# Altium footprint library 53261-0871.PcbLib: 1 footprints
Each footprint in its own frame and in the unit in brackets; x right, y up, seen from the top. Pads: shape width x height; smd on the part's side, far side on the other; paste and mask are expansions set on the pad; w line width, h text height; cw(c..) or ccw(c..) is an arc to the next point about the centre after c.
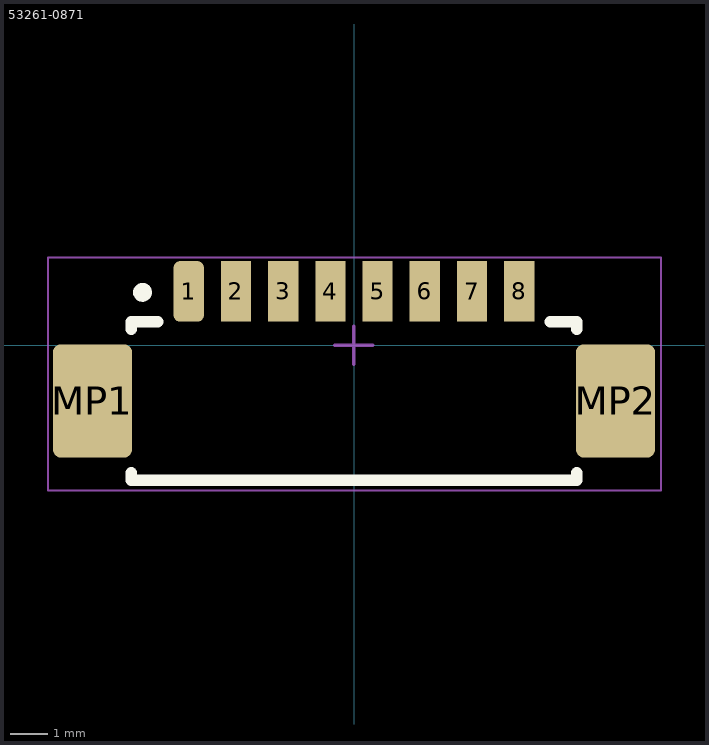
[diagram p0: the footprint, top view; thin cyan lines are the x and y axes]

## 53261-0871 [mm]
height 1.6
pads (10):
  rrect40% 0.8x1.6 smd: 1(-4.375,1.425)
  rect 0.8x1.6 smd: 2(-3.125,1.425) 3(-1.875,1.425) 4(-0.625,1.425) 5(0.625,1.425) 6(1.875,1.425) 7(3.125,1.425) 8(4.375,1.425)
  rrect20% 2.1x3 smd: MP1(-6.925,-1.475) MP2(6.925,-1.475)
Top Overlay:
  circle w0.25: c-5.6,1.4 r0.125
  lines w0.3: -5.9,-3.375 -5.9,-3.575 5.9,-3.575 5.9,-3.375 ; -5.9,0.425 -5.9,0.625 -5.2,0.625 ; 5.2,0.625 5.9,0.625 5.9,0.425
Mechanical 15:
  lines w0.05: -8.1,-3.85 8.125,-3.85 8.125,2.325 -8.1,2.325 -8.1,-3.85
  lines w0.1: -0.505,0 0.495,0 ; -0.005,-0.5 -0.005,0.5
3D body "53261-0871.stp": height 3.4, standoff 0, extent -7.55,-3.315 7.6,1.885